# Altium schematic symbol library 61300611121.SchLib: 1 symbol
Pins are listed as number, name and electrical type; pins without a type are passive.

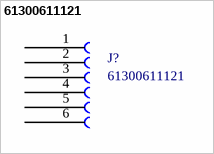
[diagram p0: symbol 61300611121]

## 61300611121
designator J?
Board-To-Board Connector, Vertical, WR-PHD Series, Through Hole, Header, 6, 2.54 mm; MF: Wurth Electronics; Package: None; MP: 61300611121; Price: None; SnapEDA_Link: https://www.snapeda.com/parts/61300611121/Wurth%20Electronics%20Inc./view-part/?ref=snap; Availability: Unavailable; Value: *
footprint 61300611121
pins: 1, 2, 3, 4, 5, 6